# EAGLE library part TPS715A33DRBT (library TI_TPS)
LDO LINEAR REGULATORS
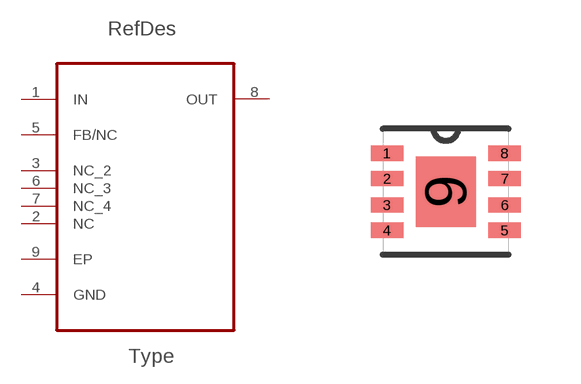
[diagram p0: symbol with the pads of SON65P300X300X100-9N; footprint SON65P300X300X100-9N]

Designator prefix U

## TPS715A33DRBT (DESCRIPTION: LDO LINEAR REGULATORS; MPN: TPS715A33DRBT; OC_FARNELL: 1135386; OC_NEWARK: 73J8405; PACKAGE: SON-8; SUPPLIER: TEXAS INSTRUMENTS)  [SON65P300X300X100-9N]
1  IN  in
2  NC  nc
3  NC_2  nc
4  GND  pas
5  FB/NC  nc
6  NC_3  nc
7  NC_4  nc
8  OUT  out
9  EP  pas

## Footprint SON65P300X300X100-9N (pad centres in mm)
smd 0.813 x 0.381: 1 -1.473,0.965; 2 -1.473,0.33; 3 -1.473,-0.33; 4 -1.473,-0.965; 5 1.473,-0.965; 6 1.473,-0.33; 7 1.473,0.33; 8 1.473,0.965
smd 1.499 x 1.753: 9 0,0